# EAGLE library part SDBMF (library Misc)
SD MEMORY CARD PUSH-PUSH WITH CONNECTOR TYPE B (BIG SWUÌTCH #3) KINGFONT PRECISION INDUSTIAL CO., LTD Source: http://www.farnell.com/datasheets/74273.pdf Best.-Nr.: 9186174 Hersteller: MULTICOMP Herstellerbez.: SDBMF-00915B0T2
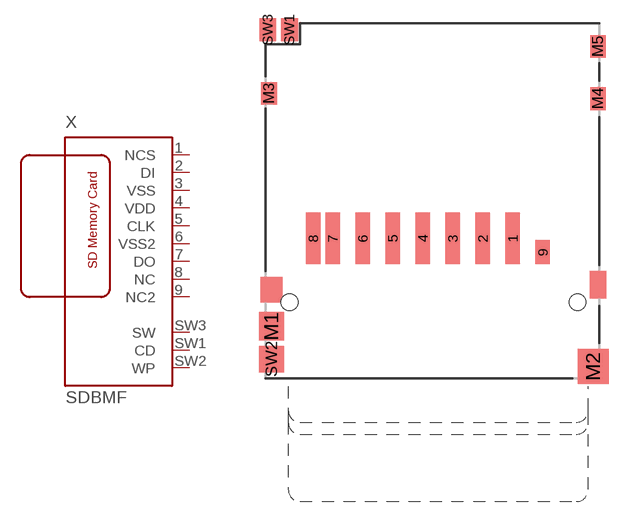
[diagram p1: symbol with the pads of SDBMF-009XXBXX2; footprint SDBMF-009XXBXX2]

Designator prefix X

## SDBMFSD  [SDBMF-009XXBXX2]
1  NCS  pas
2  DI  pas
3  VSS  pas
4  VDD  pas
5  CLK  pas
6  VSS2  pas
7  DO  pas
8  NC  pas
9  NC2  pas
SW1  CD  pas
SW2  WP  pas
SW3  SW

## Footprint SDBMF-009XXBXX2 (pad centres in mm)
SD MEMORY CARD PUSH-PUSH WITH CONNECTOR TYPE B (BIG SWUÌTCH #3) KINGFONT PRECISION INDUSTIAL CO., LTD Source: http://www.farnell.com/datasheets/74273.pdf Best.-Nr.: 9186174 Hersteller: MULTICOMP Herstellerbez.: SDBMF-00915B0T2
smd 1.2 x 4.3: 1 6.7,5.325; 2 4.2,5.325; 3 1.7,5.325; 4 -0.8,5.325; 5 -3.3,5.325; 6 -5.8,5.325; 7 -8.3,5.325; 8 -9.925,5.325
smd 1.2 x 2: 9 9.2,4.175
smd 2.1 x 2.4: M1 -13.4,-2
smd 2.6 x 2.9: M2 13.4,-5.35
smd 1.3 x 1.9: M3 -13.6,17.4; M4 13.8,16.95; M5 13.8,21.3
smd 1.4 x 1.95: SW1 -11.9,22.7; SW3 -13.7,22.7
smd 2.1 x 2.2: SW2 -13.4,-4.75
hole 1.4 at -11.9,0
hole 1.4 at 12.1,0